# Altium footprint library PcbLib1.PcbLib: 4 footprints
Each footprint in its own frame and in the unit in brackets; x right, y up, seen from the top. Pads: shape width x height; smd on the part's side, far side on the other; paste and mask are expansions set on the pad; w line width, h text height; cw(c..) or ccw(c..) is an arc to the next point about the centre after c.
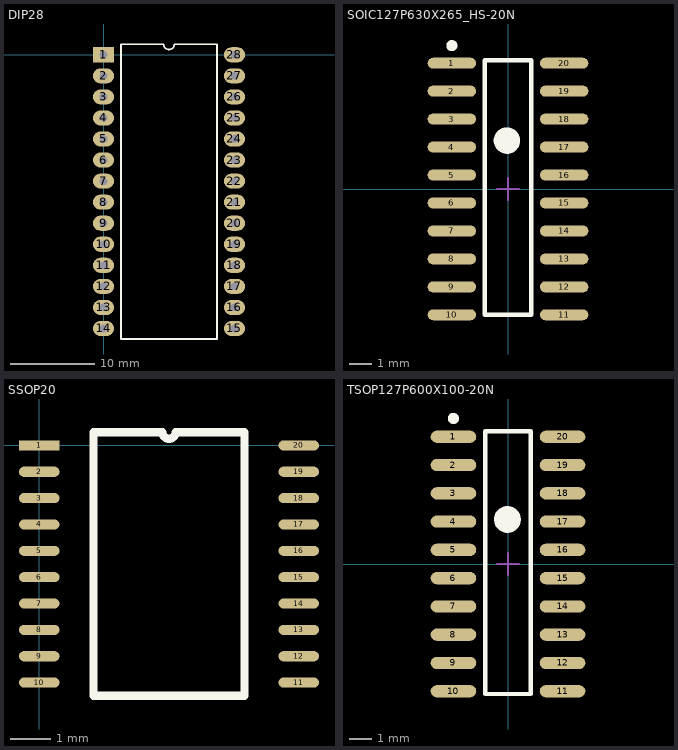
[diagram p0: the footprints below, top view; thin cyan lines are the x and y axes]

## DIP28 [mm]
pads (28):
  rect 2.5x1.8 hole 0.9: 1(0,0)
  oval 2.5x1.8 hole 0.9: 2(0,-2.5) 3(0,-5) 4(0,-7.5) 5(0,-10) 6(0,-12.5) 7(0,-15) 8(0,-17.5) 9(0,-20) 10(0,-22.5) 11(0,-25) 12(0,-27.5) 13(0,-30) 14(0,-32.5) 15(15.55,-32.5) 16(15.55,-30) 17(15.55,-27.5) 18(15.55,-25) 19(15.55,-22.5) 20(15.55,-20) 21(15.55,-17.5) 22(15.55,-15) 23(15.55,-12.5) 24(15.55,-10) 25(15.55,-7.5) 26(15.55,-5) 27(15.55,-2.5) 28(15.55,0)
Top Overlay:
  lines w0.2: 2.085,-33.75 2.085,1.25 7.15,1.25 ccw(c7.775,1.25) 8.4,1.25 13.465,1.25 13.465,-33.75 2.085,-33.75

## SOIC127P630X265_HS-20N [mm] "SOIC, 20-Leads, Body 6.4x4.4mm (max), Pitch 1.27mm, IPC Medium Density"
height 2.65
pads (21):
  oval 2.2x0.5 smd: 1(-2.55,5.715) 2(-2.55,4.445) 3(-2.55,3.175) 4(-2.55,1.905) 5(-2.55,0.635) 6(-2.55,-0.635) 7(-2.55,-1.905) 8(-2.55,-3.175) 9(-2.55,-4.445) 10(-2.55,-5.715) 11(2.55,-5.715) 12(2.55,-4.445) 13(2.55,-3.175) 14(2.55,-1.905) 15(2.55,-0.635) 16(2.55,0.635) 17(2.55,1.905) 18(2.55,3.175) 19(2.55,4.445) 20(2.55,5.715)
  rect 0x0 smd: 21(0,0)
Top Overlay:
  circle w0.25: c-2.55,6.515 r0.125
  circle w0.6: c-0.05,2.2 r0.3
  lines w0.2: -1.05,-5.715 1.05,-5.715 1.05,5.842 -1.05,5.842 -1.05,-5.715
Mechanical 15:
  lines w0.1: -0.5,0 0.5,0 ; 0,-0.5 0,0.5

## SSOP20 [mm]
pads (20):
  rect 1x0.25 smd: 1(0,0)
  oval 1x0.25 smd: 2(0,-0.65) 3(0,-1.3) 4(0,-1.95) 5(0,-2.6) 6(0,-3.25) 7(0,-3.9) 8(0,-4.55) 9(0,-5.2) 10(0,-5.85) 11(6.4,-5.85) 12(6.4,-5.2) 13(6.4,-4.55) 14(6.4,-3.9) 15(6.4,-3.25) 16(6.4,-2.6) 17(6.4,-1.95) 18(6.4,-1.3) 19(6.4,-0.65) 20(6.4,0)
Top Overlay:
  lines w0.2: 1.335,-6.175 1.335,0.325 3.037,0.325 ccw(c3.2,0.325) 3.362,0.325 5.065,0.325 5.065,-6.175 1.335,-6.175

## TSOP127P600X100-20N [mm] "TSOP, 20-Leads, Body 6.0x2.0mm (max), Pitch 1.27mm, IPC Medium Density"
height 1
pads (20):
  oval 2.05x0.55 smd: 1(-2.45,5.715) 2(-2.45,4.445) 3(-2.45,3.175) 4(-2.45,1.905) 5(-2.45,0.635) 6(-2.45,-0.635) 7(-2.45,-1.905) 8(-2.45,-3.175) 9(-2.45,-4.445) 10(-2.45,-5.715) 11(2.45,-5.715) 12(2.45,-4.445) 13(2.45,-3.175) 14(2.45,-1.905) 15(2.45,-0.635) 16(2.45,0.635) 17(2.45,1.905) 18(2.45,3.175) 19(2.45,4.445) 20(2.45,5.715)
Top Overlay:
  circle w0.25: c-2.45,6.54 r0.125
  circle w0.6: c-0.025,2 r0.3
  lines w0.2: -1.016,-5.842 -1.016,5.969 1.025,5.969 1.025,-5.842 -1.016,-5.842
Mechanical 13:
  circle w0.1: c-0.05,2.05 r0.5
  lines w0.1: 1,-3 1,3
Mechanical 15:
  lines w0.1: -0.5,0 0.5,0 ; 0,-0.5 0,0.5